# EAGLE library part LCD_TFT (library project_2)
TFT LCD IL9341 by Adafruit
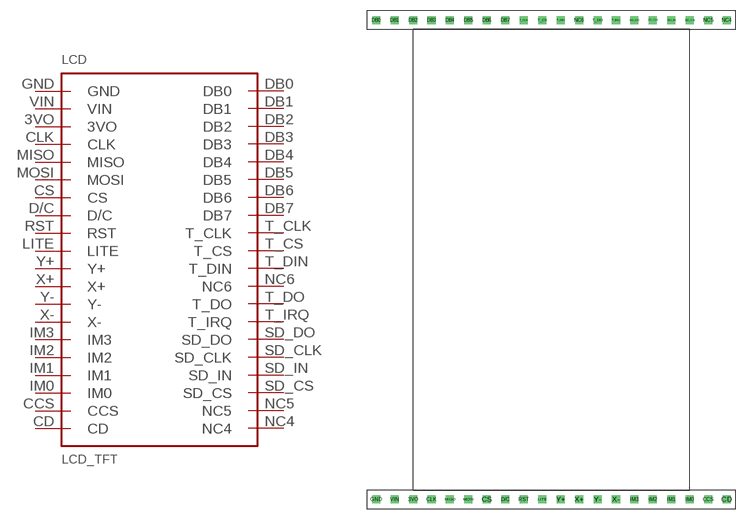
[diagram p1: symbol with the pads of LCD_TFT; footprint LCD_TFT]

Designator prefix LCD

## LCD_TFT  [LCD_TFT]
3VO  3VO
CCS  CCS
CD  CD
CLK  CLK
CS  CS
D/C  D/C
DB0  DB0
DB1  DB1
DB2  DB2
DB3  DB3
DB4  DB4
DB5  DB5
DB6  DB6
DB7  DB7
GND  GND
IM0  IM0
IM1  IM1
IM2  IM2
IM3  IM3
LITE  LITE
MISO  MISO
MOSI  MOSI
NC4  NC4
NC5  NC5
NC6  NC6
RST  RST
SD_CLK  SD_CLK
SD_CS  SD_CS
SD_DO  SD_DO
SD_IN  SD_IN
T_CLK  T_CLK
T_CS  T_CS
T_DIN  T_DIN
T_DO  T_DO
T_IRQ  T_IRQ
VIN  VIN
X+  X+
X-  X-
Y+  Y+
Y-  Y-

## Footprint LCD_TFT (pad centres in mm)
drill 0.6 square: 3VO 5.08,1.27; CCS 45.72,1.27; CD 48.26,1.27; CLK 7.62,1.27; CS 15.24,1.27; D/C 17.78,1.27; DB0 0,67.31; DB1 2.54,67.31; DB2 5.08,67.31; DB3 7.62,67.31; DB4 10.16,67.31; DB5 12.7,67.31; DB6 15.24,67.31; DB7 17.78,67.31; GND 0,1.27; IM0 43.18,1.27; IM1 40.64,1.27; IM2 38.1,1.27; IM3 35.56,1.27; LITE 22.86,1.27; MISO 10.16,1.27; MOSI 12.7,1.27; NC4 48.26,67.31; NC5 45.72,67.31; NC6 27.94,67.31; RST 20.32,1.27; SD_CLK 38.1,67.31; SD_CS 43.18,67.31; SD_DO 35.56,67.31; SD_IN 40.64,67.31; T_CLK 20.32,67.31; T_CS 22.86,67.31; T_DIN 25.4,67.31; T_DO 30.48,67.31; T_IRQ 33.02,67.31; VIN 2.54,1.27; X+ 27.94,1.27; X- 33.02,1.27; Y+ 25.4,1.27; Y- 30.48,1.27